# EAGLE library part SX1131-DUAL-OPTO (library me)
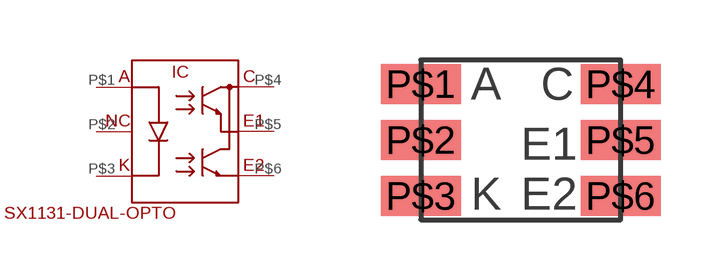
[diagram p3: symbol with the pads of SOT-6; footprint SOT-6]

Designator prefix IC

## SX1131-DUAL-OPTO  [SOT-6]
P$1  A
P$2  NC
P$3  K
P$4  C
P$5  E1
P$6  E2

## Footprint SOT-6 (pad centres in mm)
smd 2 x 1: P$1 -2.5,1.4; P$2 -2.5,0; P$3 -2.5,-1.4; P$4 2.5,1.4; P$5 2.5,0; P$6 2.5,-1.4